# Altium footprint library Interpoint_Case_B.PcbLib: 1 footprints
Each footprint in its own frame and in the unit in brackets; x right, y up, seen from the top. Pads: shape width x height; smd on the part's side, far side on the other; paste and mask are expansions set on the pad; w line width, h text height; cw(c..) or ccw(c..) is an arc to the next point about the centre after c.
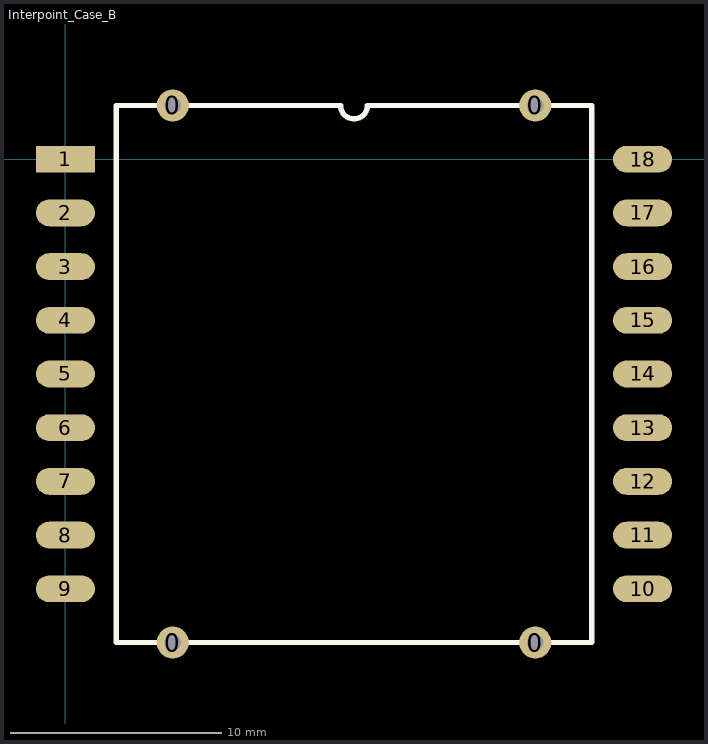
[diagram p0: the footprint, top view; thin cyan lines are the x and y axes]

## Interpoint_Case_B [mil]
pads (22):
  round 60 hole 30: 0(200,-900) 0(200,100) 0(875,-900) 0(875,100)
  rect 110x50 smd: 1(0,0)
  oval 110x50 smd: 2(0,-100) 3(0,-200) 4(0,-300) 5(0,-400) 6(0,-500) 7(0,-600) 8(0,-700) 9(0,-800) 10(1075,-800) 11(1075,-700) 12(1075,-600) 13(1075,-500) 14(1075,-400) 15(1075,-300) 16(1075,-200) 17(1075,-100) 18(1075,0)
Top Overlay:
  lines w10: 95,-900 980,-900 980,100 562.5,100 cw(c537.5,100) 512.5,100 95,100 95,-900